# EAGLE library part ADXL345BCCZ-RL (library Common-Parts-Library-Eagle)
3-Axis, ±2 g/±4 g/±8 g/±16 g Digital Accelerometer
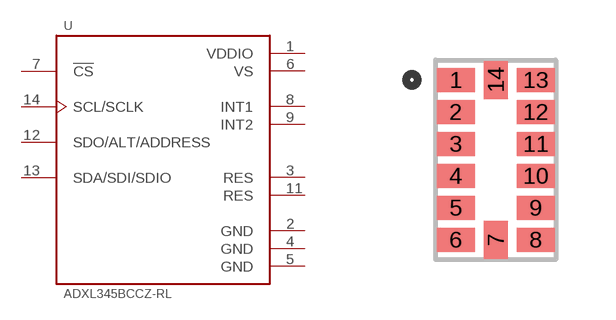
[diagram p65: symbol with the pads of PQFN80P300X500X79-14N; footprint PQFN80P300X500X79-14N]

Designator prefix U

## ADXL345BCCZ-RL (MANUFACTURER: Analog Devices)  [PQFN80P300X500X79-14N]
1  VDDIO  pwr
2  GND  pwr
3  RES  pas
4  GND  pwr
5  GND  pwr
6  VS  pwr
7  !CS
8  INT1  out
9  INT2  out
11  RES  pas
12  SDO/ALT/ADDRESS
13  SDA/SDI/SDIO
14  SCL/SCLK  in

## Footprint PQFN80P300X500X79-14N (pad centres in mm)
smd 0.95 x 0.6: 1 -1,2; 2 -1,1.2; 3 -1,0.4; 4 -1,-0.4; 5 -1,-1.2; 6 -1,-2; 8 1,-2; 9 1,-1.2; 10 1,-0.4; 11 1,0.4; 12 1,1.2; 13 1,2
smd 0.6 x 0.95: 7 0,-2; 14 0,2